# Altium schematic symbol library Inverter.SchLib: 1 symbol
Pins are listed as number, name and electrical type; pins without a type are passive.

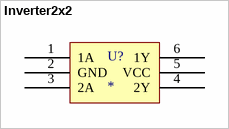
[diagram p0: symbol Inverter2x2]

## Inverter2x2
designator U?
Logic Inverter 2 Circuits; Digi-Key Part Number: 296-27361-1-ND
footprint Inverter2x2 (Inversor Lógico 2E2S)
pins: 1 1A, 2 GND, 3 2A, 4 2Y, 5 VCC, 6 1Y